# Altium schematic symbol library Transistor.SchLib: 1 symbol
Pins are listed as number, name and electrical type; pins without a type are passive.

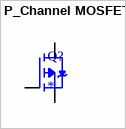
[diagram p0: symbol P_Channel MOSFET]

## P_Channel MOSFET
designator Q?
footprint DFN2x2B_6L_EP1_S
pins: D, G, S